# Altium schematic symbol library Schlib1.SchLib: 25 symbols
Pins are listed as number, name and electrical type; pins without a type are passive.

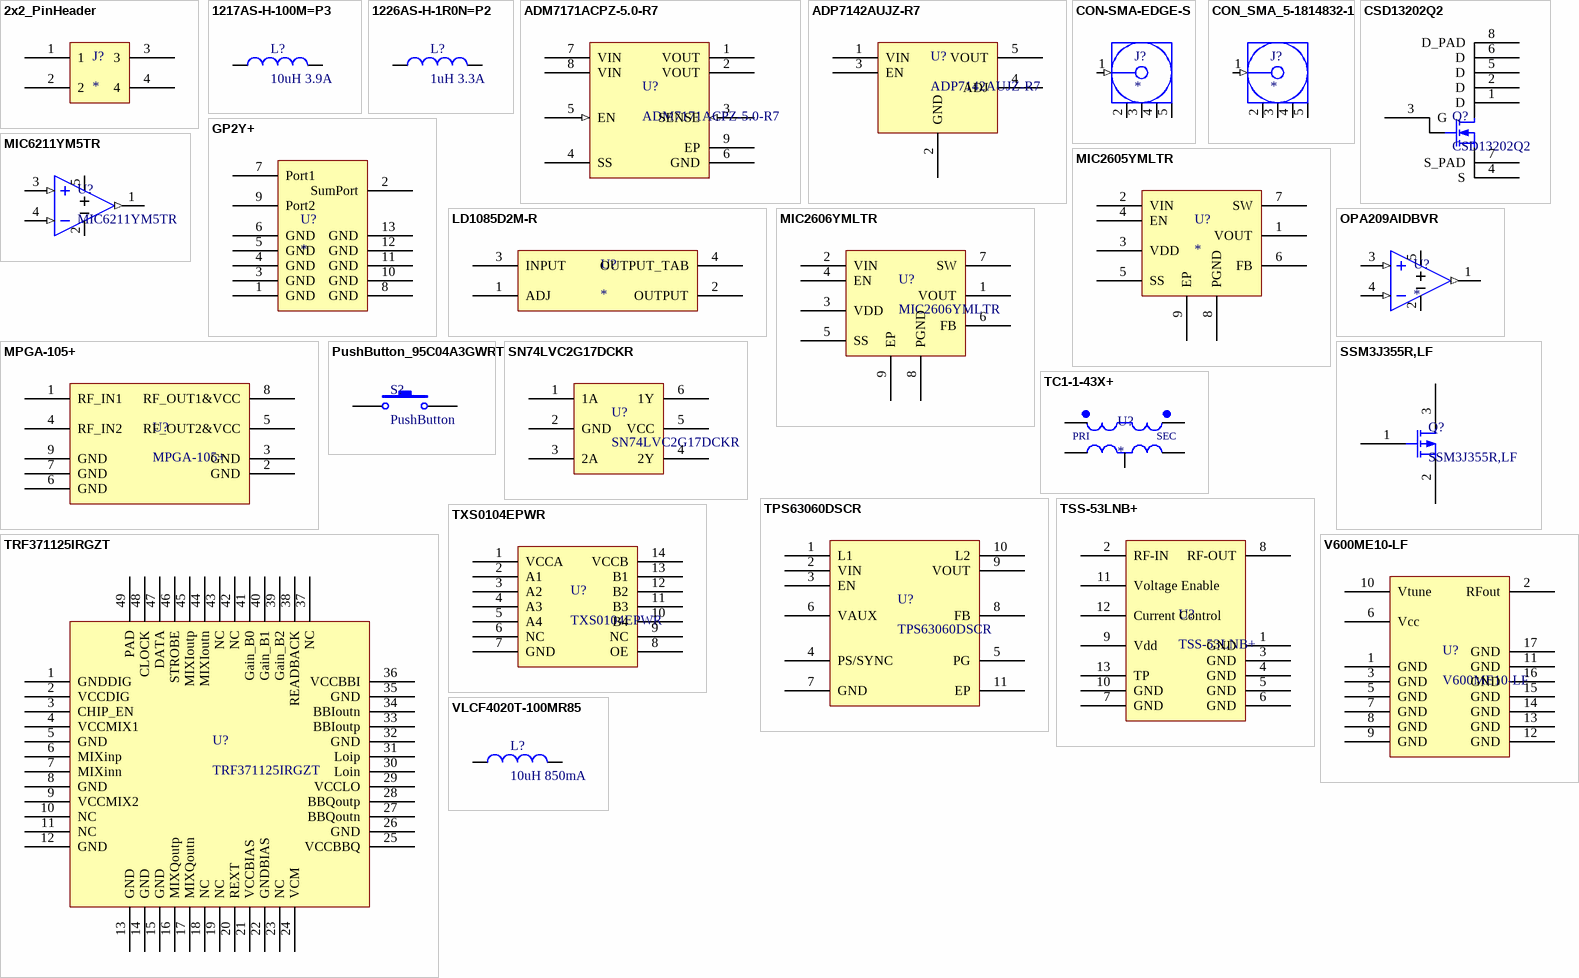
[diagram p0: symbols 2x2_PinHeader to VLCF4020T-100MR85]

## 2x2_PinHeader
designator J?
footprint 2x2_PinHeader
pins: 1, 2, 3, 4

## 1217AS-H-100M=P3
designator L?, comment 10uH 3.9A
Ind Power Shielded 10uH 20% 100KHz Ferrite 3.9A T/R; Manufacturer: Murata; Manufacturer Part Number: 1217AS-H-100M=P3; Type: Wirewound; Inductance: 10µH; Current - Saturation: 4.3A; DC Resistance (DCR): 39.6 mOhm Max; Supplier 1: Digi-Key; Stock 1: 1997; Pricing 1: 1=0.9, 10=0.837, 100=0.6054, 500=0.4637 (USD); Category: Inductors, Coils, Chokes; Family: Fixed Inductors; Series: DEM8045C; Packaging: Tape & Reel (TR); Material - Core: Ferrite; Tolerance: ±20%; Current Rating: 3.9A; Shielding: Shielded; Q @ Freq: -; Frequency - Self Resonant: -; Ratings: -; Operating Temperature: -; Frequency - Test: 100kHz; Mounting Type: Surface Mount; Package / Case: 2-SMD; Size / Dimension: 0.315" L x 0.315" W (8.00mm x 8.00mm); Height - Seated (Max): 0.177" (4.50mm); Supplier Part Number 1: 490-10783-1-ND
footprint INDP8080X45N (Precision Wire Wound Inductor, 2-Leads, Body 8,00x8,00mm, IPC Medium Density)
pins: 1, 2

## 1226AS-H-1R0N=P2
designator L?, comment 1uH 3.3A
1µH Shielded Wirewound Inductor 3.3A 32 mOhm Max Nonstandard; Manufacturer: Murata; Manufacturer Part Number: 1226AS-H-1R0N=P2; Material - Core: Ferrite; Tolerance: ±30%; Current - Saturation: 2.1A; Frequency - Test: 100kHz; Supplier 1: Digi-Key; Stock 1: 2125; Pricing 1: 1=0.71, 10=0.624, 100=0.4456, 500=0.3743, 1000=0.303 (USD); Category: Inductors, Coils, Chokes; Family: Fixed Inductors; Series: -; Packaging: Tape & Reel (TR); Part Status: Active; Type: Wirewound; Inductance: 1µH; Current Rating: 3.3A; Shielding: Shielded; DC Resistance (DCR): 32 mOhm Max; Q @ Freq: -; Frequency - Self Resonant: -; Ratings: -; Operating Temperature: -40°C ~ 85°C; Mounting Type: Surface Mount; Package / Case: Nonstandard; Size / Dimension: 0.126" L x 0.118" W (3.20mm x 3.00mm); Height - Seated (Max): 0.059" (1.50mm); ComponentLink1URL: http://www.toko.co.jp/products/pdf/inductors/dem2815c.pdf; ComponentLink1Description: http://www.toko.co.jp/products/pdf/inductors/dem2815c.pdf; Supplier Part Number 1: 490-14149-1-ND
footprint INDP3028X15N (Precision Wire Wound Inductor, 2-Leads, Body 3,00x2,80mm, IPC Medium Density)
pins: 1, 2

## ADM7171ACPZ-5.0-R7
designator U?
LDO Regulator Pos 5V 1A 8-Pin LFCSP T/R; Manufacturer: Analog Devices; Input Voltage Range: 2.3 to 6.5 V; Number of Outputs: 1; Line Regulation: 0.1 %/V; Output Type: Fixed; Maximum Input Voltage: 6.5 V; Typical Quiescent Current: 0.7 mA; Polarity: Positive; Load Regulation: 0.1 %/A; Minimum Input Voltage: 2.3 V; Screening Level: Extended Industrial; Junction to Case: 23.5 C/W; Maximum Dropout Voltage @ Current: 0.07@500mA|0.135@1A V; Accuracy: -0.5|1 %; Junction to Ambient: 36.4 C/W; Maximum Quiescent Current: 2 mA; Supplier 1: Digi-Key; Manufacturer Part Number: ADM7171ACPZ-5.0-R7; Stock 1: 574; Pricing 1: 1=3.25, 10=2.917, 100=2.3901, 500=2.0347 (USD); Output Voltage: 5 V; Mounting: Surface Mount; Function: LDO; Operating Temperature: -40 to 125 C; Maximum Output Current: 1 A; ComponentLink1URL: http://www.analog.com/static/imported-files/data_sheets/ADM7171.pdf; ComponentLink1Description: http://www.analog.com/static/imported-files/data_sheets/ADM7171.pdf; ComponentLink2URL: http://www.analog.com/media/en/technical-documentation/data-sheets/ADM7171.pdf; ComponentLink2Description: http://www.analog.com/media/en/technical-documentation/data-sheets/ADM7171.pdf; Supplier Part Number 1: ADM7171ACPZ-5.0-R7CT-ND
footprint SON50P300X80_HS-9N LFCSP_WD Analog (SON, 8-Leads, Body 3,00x3,00mm, Pitch 0,50mm, Thermal Pad 1,60x1,49mm, IPC Medium Density)
pins: 1 VOUT (power), 2 VOUT (power), 3 SENSE (in), 4 SS, 5 EN (in), 6 GND (power), 7 VIN (power), 8 VIN (power), 9 EP (power)

## ADP7142AUJZ-R7
designator U?
LDO Voltage Regulators 40V 200mA LDO adjVo; Manufacturer: Analog Devices; Output Voltage: 1.2 V to 39.8 V; Number of Outputs: 1 Output; Output Type: Adjustable; Load Regulation: 0.002 %/mA; Development Kit: ADP7142UJ-EVALZ; Dropout Voltage - Max: 420 mV; Ib - Input Bias Current: 1 uA; Input Voltage MIN: 2.7 V; Line Regulation: 0.01 %/V; Operating Supply Current: 180 uA; PSRR / Ripple Rejection - Typ: 88 dB; Voltage Regulation Accuracy: 0.8 %; Supplier 1: Digi-Key; Manufacturer Part Number: ADP7142AUJZ-R7; Stock 1: 401; Pricing 1: 1=3, 10=2.697, 100=2.2094, 500=1.8808, 1000=1.5862 (USD); Product Category: LDO Voltage Regulators; RoHS: True; Mounting Style: SMD/SMT; Package / Case: TSOT-25-5; Output Current: 200 mA; Input Voltage MAX: 40 V; Maximum Operating Temperature: + 125 C; Series: ADP7142; Brand: Analog Devices; Minimum Operating Temperature: - 40 C; Packaging: Reel; Product: LDO Regulators; Factory Pack Quantity: 3000; Type: CMOS Linear Voltage Regulator; ComponentLink1URL: http://www.mouser.com/ds/2/609/ADP7142-878904.pdf; ComponentLink1Description: http://www.mouser.com/ds/2/609/ADP7142-878904.pdf; ComponentLink2URL: http://www.analog.com/static/imported-files/data_sheets/ADP7142.pdf; ComponentLink2Description: http://www.analog.com/static/imported-files/data_sheets/ADP7142.pdf; ComponentLink3URL: http://www.analog.com/media/en/technical-documentation/data-sheets/ADP7142.pdf; ComponentLink3Description: http://www.analog.com/media/en/technical-documentation/data-sheets/ADP7142.pdf; Supplier Part Number 1: ADP7142AUJZ-R7CT-ND
footprint SOT95P280X90-5N (SOT23, 5-Leads, Body 2,40x2,80mm, Pitch 0,95mm, IPC Medium Density)
pins: 1 VIN, 2 GND, 3 EN, 4 ADJ, 5 VOUT

## CON-SMA-EDGE-S
designator J?
CONN SMA JACK STR EDGE MNT; Manufacturer: RF Solutions; Manufacturer Part Number: CON-SMA-EDGE-S; Connector Type: Jack, Female Socket; Contact Termination: Solder; Supplier 1: Digi-Key; RoHS: RoHS Compliant; Category: Connectors, Interconnects; Stock 1: 0; Pricing 1: 1=1.51 (EUR); Packaging: -; Part Status: Active; Connector Style: SMA; Shield Termination: Solder; Impedance: -; Mounting Type: Board Edge, End Launch; Mounting Feature: -; Cable Group: -; Fastening Type: Threaded; Features: -; Housing Color: -; Ingress Protection: -; Includes: -; Body Material: -; Body Finish: -; Center Contact Plating: -; Dielectric Material: -; Operating Temperature: -; Center Contact Material: -; Mating Cycles: -; Insertion Loss: -; ComponentLink1URL: https://media.digikey.com/pdf/Data%20Sheets/RF%20Solutions%20PDFs/CON-SMA-EDGE.pdf; ComponentLink1Description: https://media.digikey.com/pdf/Data%20Sheets/RF%20Solutions%20PDFs/CON-SMA-EDGE.pdf; Supplier Part Number 1: CON-SMA-EDGE-S-ND
footprint CON-SMA-EDGE-S
pins: 1 Signal (in) "Signal Pin", 2 GND (power), 3 GND (power), 4 GND (power), 5 GND (power)

## CON_SMA_5-1814832-1
designator J?
CONN SMA JACK STR 50 OHM PCB; Manufacturer: TE Connectivity AMP Connectors; Manufacturer Part Number: 5-1814832-1; Connector Type: Jack, Female Socket; Contact Termination: Solder; Impedance: 50 Ohm; Body Material: Zinc Alloy; Body Finish: Gold; Dielectric Material: Polytetrafluoroethylene (PTFE); Center Contact Material: Phosphor Bronze; Mating Cycles: 500; Supplier 1: Digi-Key; RoHS: RoHS Compliant; Category: Connectors, Interconnects; Stock 1: 18421; Pricing 1: 1=1.57, 10=1.508, 25=1.3828, 50=1.3198, 100=1.2569, 250=1.09984, 500=1.06842, 1000=0.94272 (EUR); Packaging: Bulk; Part Status: Active; Connector Style: SMA; Shield Termination: Solder; Mounting Type: Through Hole; Mounting Feature: -; Cable Group: -; Fastening Type: Threaded; Features: -; Housing Color: Gold; Ingress Protection: -; Includes: -; Center Contact Plating: Gold; Operating Temperature: -65°C ~ 165°C; Insertion Loss: -; ComponentLink1URL: http://www.te.com/commerce/DocumentDelivery/DDEController?Action=srchrtrv&DocNm=1814832&DocType=Customer+Drawing&DocLang=English; ComponentLink1Description: http://www.te.com/commerce/DocumentDelivery/DDEController?Action=srchrtrv&DocNm=1814832&DocType=Customer+Drawing&DocLang=English; Supplier Part Number 1: A97594-ND
footprint SMA_CONN_5-1814832-1 (SMA CONN 50 ohm)
pins: 1 Signal (in) "Signal Pin", 2 GND (power), 3 GND (power), 4 GND (power), 5 GND (power)

## CSD13202Q2
designator Q?
MOSFET N-CH 12V 76A 6SON; Manufacturer: Texas Instruments; FET Type: N-Channel; Current - Continuous Drain (Id) @ 25°C: 22A (Ta); Drive Voltage (Max Rds On,  Min Rds On): 2.5V, 4.5V; Rds On (Max) @ Id, Vgs: 9.3 mOhm @ 5A, 4.5V; Vgs(th) (Max) @ Id: 1.1V @ 250µA; Vgs (Max): ±8V; Power Dissipation (Max): 2.7W (Ta); Supplier 1: Digi-Key; Manufacturer Part Number: CSD13202Q2; RoHS: RoHS Compliant; Category: Discrete Semiconductor Products; Stock 1: 166239; Pricing 1: 1=0.58, 10=0.489, 100=0.3671, 500=0.26922, 1000=0.20803 (EUR); Packaging: Cut Tape (CT); Part Status: Active; Technology: MOSFET (Metal Oxide); FET Feature: -; Operating Temperature: -55°C ~ 150°C (TJ); Mounting Type: Surface Mount; Supplier Device Package: 6-WSON (2x2); Package / Case: 6-VDFN Exposed Pad; ComponentLink1URL: http://www.ti.com/lit/ds/symlink/csd13202q2.pdf; ComponentLink1Description: http://www.ti.com/lit/ds/symlink/csd13202q2.pdf; Supplier Part Number 1: 296-38911-1-ND
footprint 8-QFN
pins: 1 D, 2 D, 3 G, 4 S, 5 D, 6 D, 7 S_PAD, 8 D_PAD

## GP2Y+
designator U?
Power Splitter/Combiner; Manufacturer: Minicircuits; Manufacturer Part Number: GP2Y+; Supplier: Aicox
footprint DQ1225 (QFN, 12-Leads, Body 3,00x3,00mm, Pitch 0,51mm, Thermal Pad 1,25x1,25mm, IPC Low Density, Minicircuits)
pins: 1 GND (power), 2 SumPort, 3 GND (power), 4 GND (power), 5 GND (power), 6 GND (power), 7 Port1, 8 GND (power), 9 Port2, 10 GND (power), 11 GND (power), 12 GND (power), 13 GND (power)

## LD1085D2M-R
designator U?
IC REG LINEAR POS ADJ 3A D2PAK-3; Manufacturer: STMicroelectronics; Manufacturer Part Number: LD1085D2M-R; Output Configuration: Positive; Output Type: Adjustable; Voltage - Input (Max): 30V; Voltage - Output (Min/Fixed): 1.25V; Voltage - Output (Max): 28.5V; Voltage Dropout (Max): 1.5V @ 3A; PSRR: 72dB (120Hz); Protection Features: Over Current, Over Temperature; Supplier 1: Digi-Key; RoHS: RoHS Compliant; Category: Integrated Circuits (ICs); Stock 1: 4622; Pricing 1: 1=1.14, 10=1.022, 100=0.7969, 500=0.65834 (EUR); Packaging: Cut Tape (CT); Part Status: Active; Current - Output: 3A; Control Features: -; Operating Temperature: -40°C ~ 125°C; Mounting Type: Surface Mount; Package / Case: TO-263-4, D²Pak (3 Leads + Tab), TO-263AA; Supplier Device Package: D2PAK-3; Base Part Number: LD1085; ComponentLink1URL: http://www.st.com/content/ccc/resource/technical/document/datasheet/d3/84/d5/f6/3c/23/40/7b/CD00001883.pdf/files/CD00001883.pdf/jcr:content/translations/en.CD00001883.pdf; ComponentLink1Description: http://www.st.com/content/ccc/resource/technical/document/datasheet/d3/84/d5/f6/3c/23/40/7b/CD00001883.pdf/files/CD00001883.pdf/jcr:content/translations/en.CD00001883.pdf; Supplier Part Number 1: 497-3419-1-ND
footprint DPAK254P1542X460-4M (D2-PAK, 4-Pads, Body 7,57x8,03mm (max), IPC Low Density)
pins: 1 ADJ, 2 OUTPUT (power), 3 INPUT (power), 4 OUTPUT_TAB (power)

## MIC2605YMLTR
designator U?
Boost Switching Regulator IC Positive Adjustable 4.5V 1 Output 500mA (Switch) 8-VFDFN Exposed Pad, 8-MLF®; Manufacturer: Microchip Micrel; Manufacturer Part Number: MIC2605YMLTR; Function: Step-Up; Number of Outputs: 1; Voltage - Input (Max): 20V; Voltage - Output (Max): 40V (Switch); Frequency - Switching: 1.2MHz; Synchronous Rectifier: No; Supplier 1: Digi-Key; Stock 1: 6517; Pricing 1: 1=1.12, 25=0.9372, 100=0.8446 (USD); Category: Integrated Circuits (ICs); Family: PMIC - Voltage Regulators - DC DC Switching Regulators; Series: -; Packaging: Tape & Reel (TR); Output Configuration: Positive; Topology: Boost; Output Type: Adjustable; Voltage - Input (Min): 4.5V; Voltage - Output (Min/Fixed): 4.5V; Current - Output: 500mA (Switch); Operating Temperature: -40°C ~ 125°C (TJ); Mounting Type: Surface Mount; Package / Case: 8-VFDFN Exposed Pad, 8-MLF®; Supplier Device Package: 8-MLF® (2x2); ComponentLink1URL: https://datasheet.ciiva.com/2028/mic2605-2028432.pdf; ComponentLink1Description: https://datasheet.ciiva.com/2028/mic2605-2028432.pdf; ComponentLink2URL: https://datasheet.ciiva.com/26909/getdatasheetpartid-131450-26909717.pdf; ComponentLink2Description: https://datasheet.ciiva.com/26909/getdatasheetpartid-131450-26909717.pdf; ComponentLink3URL: https://datasheet.ciiva.com/16364/mic2605-16364795.pdf; ComponentLink3Description: https://datasheet.ciiva.com/16364/mic2605-16364795.pdf; ComponentLink4URL: https://datasheet.ciiva.com/2028/mic2605-2028430.pdf; ComponentLink4Description: https://datasheet.ciiva.com/2028/mic2605-2028430.pdf; ComponentLink5URL: https://datasheet.ciiva.com/2028/mic2605-2028431.pdf; ComponentLink5Description: https://datasheet.ciiva.com/2028/mic2605-2028431.pdf; Supplier Part Number 1: 576-3258-1-ND
footprint SON50P200X90_HS-9N (SON, 8-Leads, Body 2,00x2,00mm, Pitch 0,50mm, Thermal Pad 1,20x0,60mm, IPC Medium Density)
pins: 1 VOUT, 2 VIN, 3 VDD, 4 EN, 5 SS, 6 FB, 7 SW, 8 PGND, 9 EP

## MIC2606YMLTR
designator U?
Boost Switching Regulator IC Positive Adjustable 4.5V 1 Output 500mA (Switch) 8-VFDFN Exposed Pad, 8-MLF®; Manufacturer: Microchip Micrel; Function: Step-Up; Number of Outputs: 1; Voltage - Input (Max): 20V; Voltage - Output (Max): 40V (Switch); Frequency - Switching: 2MHz; Synchronous Rectifier: No; Supplier 1: Digi-Key; Manufacturer Part Number: MIC2606YMLTR; Stock 1: 2212; Pricing 1: 1=0.77, 25=0.64, 100=0.62 (USD); Category: Integrated Circuits (ICs); Family: PMIC - Voltage Regulators - DC DC Switching Regulators; Series: -; Packaging: Tape & Reel (TR); Output Configuration: Positive; Topology: Boost; Output Type: Adjustable; Voltage - Input (Min): 4.5V; Voltage - Output (Min/Fixed): 4.5V; Current - Output: 500mA (Switch); Operating Temperature: -40°C ~ 125°C (TJ); Mounting Type: Surface Mount; Package / Case: 8-VFDFN Exposed Pad, 8-MLF®; Supplier Device Package: 8-MLF® (2x2); ComponentLink1URL: https://datasheet.ciiva.com/4118/47017811s8962126n1374-4118815.pdf; ComponentLink1Description: https://datasheet.ciiva.com/4118/47017811s8962126n1374-4118815.pdf; ComponentLink2URL: https://datasheet.ciiva.com/16376/mic2605-16376742.pdf; ComponentLink2Description: https://datasheet.ciiva.com/16376/mic2605-16376742.pdf; ComponentLink3URL: https://datasheet.ciiva.com/2028/mic2605-2028445.pdf; ComponentLink3Description: https://datasheet.ciiva.com/2028/mic2605-2028445.pdf; ComponentLink4URL: https://datasheet.ciiva.com/2028/mic2605-2028446.pdf; ComponentLink4Description: https://datasheet.ciiva.com/2028/mic2605-2028446.pdf; ComponentLink5URL: https://datasheet.ciiva.com/2028/mic2605-2028447.pdf; ComponentLink5Description: https://datasheet.ciiva.com/2028/mic2605-2028447.pdf; Supplier Part Number 1: 1611-MIC2606YML-CT-ND
footprint SON50P200X90_HS-9N (SON, 8-Leads, Body 2,00x2,00mm, Pitch 0,50mm, Thermal Pad 1,20x0,60mm, IPC Medium Density)
pins: 1 VOUT, 2 VIN, 3 VDD, 4 EN, 5 SS, 6 FB, 7 SW, 8 PGND, 9 EP

## MIC6211YM5TR
designator U?
IC OPAMP GP 2.5MHZ SOT23-5; Manufacturer: Microchip Micrel; Input Offset Voltage-Max: 7 mV; No of Channels: 1; Slew Rate-Nom: 6 V/µs; Supply Voltage-Max: 32 V; Supplier 1: Digi-Key; Manufacturer Part Number: MIC6211YM5TR; Stock 1: 6526; Pricing 1: 1=0.32, 25=0.268, 100=0.2472 (USD); Gain Bandwidth-Nom: 2.5 MHz; ComponentLink1URL: https://datasheet.ciiva.com/1796/mic6211-1796048.pdf; ComponentLink1Description: https://datasheet.ciiva.com/1796/mic6211-1796048.pdf; ComponentLink2URL: https://datasheet.ciiva.com/5825/94475-5825392.pdf; ComponentLink2Description: https://datasheet.ciiva.com/5825/94475-5825392.pdf; ComponentLink3URL: https://datasheet.ciiva.com/1796/mic6211-1796049.pdf; ComponentLink3Description: https://datasheet.ciiva.com/1796/mic6211-1796049.pdf; ComponentLink4URL: https://datasheet.ciiva.com/1796/mic6211-1796050.pdf; ComponentLink4Description: https://datasheet.ciiva.com/1796/mic6211-1796050.pdf; ComponentLink5URL: https://datasheet.ciiva.com/13061/mic6211-13061502.pdf; ComponentLink5Description: https://datasheet.ciiva.com/13061/mic6211-13061502.pdf; Supplier Part Number 1: 576-1314-1-ND
footprint SOT95P280X90-5N2 (SOT23, 5-Leads, Body 2,90x2,80mm, Pitch 0,95mm, IPC Medium Density)
pins: 1 OUTA (out), 2 V- (power), 3 IN+ (in), 4 IN- (in), 5 V+ (power)

## MPGA-105+
designator U?
Dual Matched MMIC Ampli er; Manufacturer: Minicircuits; Manufacturer Part Number: MPGA-105+; Supplier: Aicox
footprint DL1020_recomendedValues (SON, 8-Leads, Body 6,00x4,90mm, Pitch 1,27mm, Thermal Pad 3,00x2,49mm, IPC Low Density, Minicircuits)
pins: 1 RF_IN1, 2 GND (power), 3 GND (power), 4 RF_IN2, 5 RF_OUT2&VCC, 6 GND (power), 7 GND (power), 8 RF_OUT1&VCC, 9 GND (power)

## OPA209AIDBVR
designator U?
IC OPAMP DIFF 18MHZ RRO SOT23-5; Manufacturer: Texas Instruments; Manufacturer Part Number: OPA209AIDBVR; Featured Product: WEBENCH Design Center; Amplifier Type: Differential; Number of Circuits: 1; Output Type: Rail-to-Rail; Slew Rate: 6.4 V/µs; Current - Input Bias: 1nA; Voltage - Input Offset: 35µV; Current - Supply: 2.2mA; Current - Output / Channel: 65mA; Voltage - Supply, Single/Dual (±): 4.5 V ~ 36 V, ±2.25 V ~ 18 V; Dynamic Catalog: Audio; Other Names: 296-28152-2; Supplier 1: Digi-Key; Stock 1: 3753; Pricing 1: 1=2.94, 10=2.642, 100=2.1237, 500=1.7448, 1000=1.4457 (USD); Standard Package: 3,000; Category: Integrated Circuits (ICs); Family: Linear - Amplifiers - Instrumentation, OP Amps, Buffer Amps; Series: -; Gain Bandwidth Product: 18MHz; -3db Bandwidth: -; Operating Temperature: -40°C ~ 125°C; Mounting Type: Surface Mount; Package / Case: SC-74A, SOT-753; Supplier Device Package: SOT-23-5; Packaging: Tape & Reel (TR); ComponentLink1URL: https://datasheet.ciiva.com/1799/opa209-1799349.pdf; ComponentLink1Description: https://datasheet.ciiva.com/1799/opa209-1799349.pdf; ComponentLink2URL: https://datasheet.ciiva.com/1799/opa209-1799350.pdf; ComponentLink2Description: https://datasheet.ciiva.com/1799/opa209-1799350.pdf; ComponentLink3URL: https://datasheet.ciiva.com/1799/opa209-1799351.pdf; ComponentLink3Description: https://datasheet.ciiva.com/1799/opa209-1799351.pdf; Supplier Part Number 1: 296-28152-1-ND
footprint SOT95P280X90-5N2 (SOT23, 5-Leads, Body 2,90x2,80mm, Pitch 0,95mm, IPC Medium Density)
pins: 1 OUTA (out), 2 V- (power), 3 IN+ (in), 4 IN- (in), 5 V+ (power)

## PushButton_95C04A3GWRT
designator S?, comment PushButton
SWITCH TACTILE SPST-NO 0.05A 12V; Manufacturer: Grayhill Inc.; Manufacturer Part Number: 95C04A3GWRT; Switch Function: Off-Mom; Contact Rating @ Voltage: 0.05A @ 12VDC; Actuator Type: Rectangular Button; Actuator Height off PCB, Vertical: 4.30mm; Actuator Orientation: Top Actuated; Outline: 6.00mm x 3.50mm; Illumination: Non-Illuminated; Operating Force: 160gf; Actuator Material: Polyamide (PA), Nylon; Switch Travel: 0.25mm; Mechanical Life: 50,000 Cycles; Supplier 1: Digi-Key; RoHS: RoHS Compliant; Category: Switches; Stock 1: 3272; Pricing 1: 1=0.38, 10=0.363, 25=0.3556, 50=0.3424, 100=0.2954, 250=0.26852, 500=0.2551 (EUR); Packaging: Cut Tape (CT); Part Status: Active; Circuit: SPST-NO; Mounting Type: Surface Mount; Actuator Length, Right Angle: -; Termination Style: Gull Wing; Illumination Type, Color: -; Illumination Voltage (Nominal): -; Ingress Protection: -; Features: Tactile Feedback; Operating Temperature: -25°C ~ 70°C; ComponentLink1URL: http://www.grayhill.com/assets/1/7/Tact_95C04.pdf; ComponentLink1Description: http://www.grayhill.com/assets/1/7/Tact_95C04.pdf; Supplier Part Number 1: GH7643CT-ND
footprint GH7643CT-ND
pins: 1, 2

## SN74LVC2G17DCKR
designator U?
IC BUF NON-INVERT 5.5V SC70-6; Manufacturer: Texas Instruments; Logic Type: Buffer, Non-Inverting; Number of Bits per Element: 1; Input Type: Schmitt Trigger; Output Type: Push-Pull; Current - Output High, Low: 32mA, 32mA; Voltage - Supply: 1.65 V ~ 5.5 V; Supplier 1: Digi-Key; Manufacturer Part Number: SN74LVC2G17DCKR; RoHS: RoHS Compliant; Category: Integrated Circuits (ICs); Stock 1: 76967; Pricing 1: 1=0.47, 10=0.399, 100=0.298, 500=0.2341, 1000=0.18089 (EUR); Packaging: Cut Tape (CT); Part Status: Active; Operating Temperature: -40°C ~ 125°C (TA); Mounting Type: Surface Mount; Package / Case: 6-TSSOP, SC-88, SOT-363; Supplier Device Package: SC-70-6; Base Part Number: 74LVC2G17; ComponentLink1URL: http://www.ti.com/lit/ds/symlink/sn74lvc2g17.pdf; ComponentLink1Description: http://www.ti.com/lit/ds/symlink/sn74lvc2g17.pdf; Supplier Part Number 1: 296-13013-1-ND
footprint DCK (R-PDSO-G6) (TSOP, 6-Leads, Body 2,00x1,25mm, Pitch 0,65mm, IPC Low Density, TexasInstrument, TI)
pins: 1 1A, 2 GND, 3 2A (power), 4 2Y (power), 5 VCC, 6 1Y

## SSM3J355R,LF
designator Q?
SMALL LOW ON RESISTANCE MOSFET; Manufacturer: Toshiba Semiconductor and Storage; FET Type: P-Channel; Current - Continuous Drain (Id) @ 25°C: 6A (Ta); Drive Voltage (Max Rds On,  Min Rds On): 1.8V, 4.5V; Rds On (Max) @ Id, Vgs: 30.1 mOhm @ 4A, 4.5V; Vgs(th) (Max) @ Id: 1V @ 1mA; Vgs (Max): ±10V; Power Dissipation (Max): 1W (Ta); Supplier 1: Digi-Key; Manufacturer Part Number: SSM3J355R,LF; RoHS: RoHS Compliant; Category: Discrete Semiconductor Products; Stock 1: 3232; Pricing 1: 1=0.43, 10=0.298, 100=0.1958, 500=0.11568, 1000=0.089 (EUR); Packaging: Cut Tape (CT); Part Status: Active; Technology: MOSFET (Metal Oxide); FET Feature: -; Operating Temperature: 150°C (TJ); Mounting Type: Surface Mount; Supplier Device Package: SOT-23F; Package / Case: SOT-23-3 Flat Leads; ComponentLink1URL: https://toshiba.semicon-storage.com/info/docget.jsp?did=55743&prodName=SSM3J355R; ComponentLink1Description: https://toshiba.semicon-storage.com/info/docget.jsp?did=55743&prodName=SSM3J355R; Supplier Part Number 1: SSM3J355RLFCT-ND
footprint SOT95P240X80-3M (SOT23, 3-Leads, Body 2,90x2,40mm, Pitch 0,95mm, IPC Low Density)
pins: 1 G, 2 S, 3 D

## TC1-1-43X+
designator U?
SMD RF Transformer; Manufacturer: Minicircuits; Manufacturer Part Number: TC1-1-43X+; Supplier: Aicox
footprint AT1521 (SOTFL, 5-Leads, Body 3,81x3,81mm, Pitch 1,27mm, IPC Low Density, Minicircuits)
pins: 1, 2 NC, 3, 4, 6
text: PRI; SEC

## TPS63060DSCR
designator U?
IC REG BUCK BOOST ADJ 2A 10WSON; Manufacturer: Texas Instruments; Output Type: Adjustable; Number of Outputs: 1; Voltage - Output: 2.5 V ~ 8 V; Voltage - Input: 2.5 V ~ 12 V; PWM Type: Current Mode; Frequency - Switching: 2.4MHz; Current - Output: 1A; Synchronous Rectifier: Yes; Dynamic Catalog: Buck-Boost IC; Other Names: 296-30204-6; Supplier 1: Digi-Key; Manufacturer Part Number: TPS63060DSCR; Stock 1: 94868; Pricing 1: 1=2.41, 10=2.162, 100=1.7376, 500=1.4276, 1000=1.1829 (USD); Standard Package: 1; Category: Integrated Circuits (ICs); Family: PMIC - Voltage Regulators - DC DC Switching Regulators; Series: -; Type: Step-Down (Buck), Step-Up (Boost); Operating Temperature: -40°C ~ 85°C; Mounting Type: Surface Mount; Package / Case: 10-WFDFN Exposed Pad; Packaging: Digi-Reel®; Supplier Device Package: 10-SON Exposed Pad (3x3); ComponentLink1URL: https://datasheet.ciiva.com/4880/slvsa92a-120813-4880993.pdf; ComponentLink1Description: https://datasheet.ciiva.com/4880/slvsa92a-120813-4880993.pdf; ComponentLink2URL: https://datasheet.ciiva.com/7142/1537406-7142908.pdf; ComponentLink2Description: https://datasheet.ciiva.com/7142/1537406-7142908.pdf; ComponentLink3URL: https://datasheet.ciiva.com/2025/tps63060-2025734.pdf; ComponentLink3Description: https://datasheet.ciiva.com/2025/tps63060-2025734.pdf; ComponentLink4URL: https://datasheet.ciiva.com/2025/tps63060-2025735.pdf; ComponentLink4Description: https://datasheet.ciiva.com/2025/tps63060-2025735.pdf; ComponentLink5URL: https://datasheet.ciiva.com/7994/1882359-7994055.pdf; ComponentLink5Description: https://datasheet.ciiva.com/7994/1882359-7994055.pdf; ComponentLink6URL: https://datasheet.ciiva.com/2025/tps63060-2025736.pdf; ComponentLink6Description: https://datasheet.ciiva.com/2025/tps63060-2025736.pdf; ComponentLink7URL: https://datasheet.ciiva.com/14377/tps63060-14377242.pdf; ComponentLink7Description: https://datasheet.ciiva.com/14377/tps63060-14377242.pdf; ComponentLink8URL: https://datasheet.ciiva.com/26181/tps63060-26181916.pdf; ComponentLink8Description: https://datasheet.ciiva.com/26181/tps63060-26181916.pdf; Supplier Part Number 1: 296-30204-1-ND
footprint SON50P300X80_HS-11N (SON, 10-Leads, Body 3,00x3,00mm, Pitch 0,50mm, Thermal Pad 2,15x1,44mm, IPC Medium Density)
pins: 1 L1, 2 VIN, 3 EN, 4 PS/SYNC, 5 PG, 6 VAUX, 7 GND, 8 FB, 9 VOUT, 10 L2, 11 EP

## TRF371125IRGZT
designator U?
IC IQ DEMODULATOR W/PGA 48VQFN; Manufacturer: Texas Instruments; Function: Demodulator, Amplifier; LO Frequency: 700MHz ~ 4GHz; P1dB: 3dBm; Gain: 40dB; Noise Figure: 13.5dB; Voltage - Supply: 4.5 V ~ 5.5 V; Supplier 1: Digi-Key; Manufacturer Part Number: TRF371125IRGZT; RoHS: RoHS Compliant; Category: RF/IF and RFID; Stock 1: 1365; Pricing 1: 1=22.67, 10=20.922, 25=19.1784, 100=17.7254 (EUR); Packaging: Cut Tape (CT); Part Status: Active; RF Frequency: 700MHz ~ 4GHz; Package / Case: 48-VFQFN Exposed Pad; Supplier Device Package: 48-VQFN (7x7); ComponentLink1URL: http://www.ti.com/lit/ds/symlink/trf371125.pdf; ComponentLink1Description: http://www.ti.com/lit/ds/symlink/trf371125.pdf; Supplier Part Number 1: 296-25654-1-ND; Supplier: Aicox
footprint QFN50P700X700X100_HS-49M (QFN, 48-Leads, Body 7,00x7,00mm, Pitch 0,50mm, Thermal Pad 5,60x5,60mm, IPC Low Density)
pins: 1 GNDDIG (power), 2 VCCDIG (power), 3 CHIP_EN, 4 VCCMIX1 (power), 5 GND (power), 6 MIXinp, 7 MIXinn, 8 GND (power), 9 VCCMIX2 (power), 10 NC, 11 NC, 12 GND (power), 13 GND (power), 14 GND (power), 15 GND (power), 16 MIXQoutp, 17 MIXQoutn, 18 NC, 19 NC, 20 REXT, 21 VCCBIAS (power), 22 GNDBIAS (power), 23 NC, 24 VCM, 25 VCCBBQ (power), 26 GND (power), 27 BBQoutn, 28 BBQoutp, 29 VCCLO (power), 30 Loin, 31 Loip, 32 GND (power), 33 BBIoutp, 34 BBIoutn, 35 GND (power), 36 VCCBBI (power), 37 NC, 38 READBACK, 39 Gain_B2, 40 Gain_B1, 41 Gain_B0, 42 NC, 43 NC, 44 MIXIoutn, 45 MIXIoutp, 46 STROBE, 47 DATA, 48 CLOCK, 49 PAD (power)

## TSS-53LNB+
designator U?
Low Noise Bypass Amplier; Manufacturer: Minicircuits; Manufacturer Part Number: TSS-53LNB+; Supplier: Aicox
footprint DQ1225 (QFN, 12-Leads, Body 3,00x3,00mm, Pitch 0,51mm, Thermal Pad 1,25x1,25mm, IPC Low Density, Minicircuits)
pins: 1 GND (power), 2 RF-IN, 3 GND (power), 4 GND (power), 5 GND (power), 6 GND (power), 7 GND (power), 8 RF-OUT, 9 Vdd (power), 10 GND (power), 11 Voltage Enable, 12 Current Control, 13 TP (power)

## TXS0104EPWR
designator U?
IC TRNSLTR BIDIRECTIONAL 14TSSOP; Manufacturer: Texas Instruments; Translator Type: Voltage Level; Channels per Circuit: 4; Output Type: Open Drain, Push-Pull; Data Rate: 24Mbps; Supplier 1: Digi-Key; Manufacturer Part Number: TXS0104EPWR; RoHS: RoHS Compliant; Category: Integrated Circuits (ICs); Stock 1: 24531; Pricing 1: 1=1.15, 10=1.027, 100=0.8009, 500=0.66168, 1000=0.52237 (EUR); Packaging: Cut Tape (CT); Part Status: Active; Channel Type: Bidirectional; Input Signal: -; Output Signal: -; Operating Temperature: -40°C ~ 85°C (TA); Features: Auto-Direction Sensing; Mounting Type: Surface Mount; Package / Case: 14-TSSOP (0.173", 4.40mm Width); Supplier Device Package: 14-TSSOP; Base Part Number: TXS0104; ComponentLink1URL: http://www.ti.com/lit/ds/symlink/txs0104e.pdf; ComponentLink1Description: http://www.ti.com/lit/ds/symlink/txs0104e.pdf; Supplier Part Number 1: 296-20697-1-ND
footprint 14-SOIC
footprint 14-TSSOP
pins: 1 VCCA, 2 A1, 3 A2, 4 A3, 5 A4, 6 NC, 7 GND, 8 OE, 9 NC, 10 B4, 11 B3, 12 B2, 13 B1, 14 VCCB

## V600ME10-LF
designator U?
Voltage-Controlled Oscillator SMD; Manufacturer: ZCOMM; Manufacturer Part Number: V600ME10-LF; Supplier: Monolitic
footprint CK605 (QFN, 16-Leads, Body 12,70x12,70mm, Pitch 2,54mm, IPC Low Density, Minicircuits)
pins: 1 GND (power), 2 RFout, 3 GND (power), 5 GND (power), 6 Vcc (power), 7 GND (power), 8 GND (power), 9 GND (power), 10 Vtune, 11 GND (power), 12 GND (power), 13 GND (power), 14 GND (power), 15 GND (power), 16 GND (power), 17 GND (power)

## VLCF4020T-100MR85
designator L?, comment 10uH 850mA
FIXED IND 10UH 850MA 185 MOHM; Manufacturer: TDK; Manufacturer Part Number: VLCF4020T-100MR85; Product Training Modules: SMD Inductors; Catalog Drawings: VLCF40(18-2,20,28-2) SeriesTop VLCF40(18-2,20,28-2) SeriesFootprint VLCF4020 Series Side; EDA / CAD Models: Download from Accelerated Designs; Type: Wirewound; Material - Core: Ferrite; Inductance: 10µH; Tolerance: ±20%; Shielding: Shielded; DC Resistance (DCR): 185 mOhm Max; Frequency - Test: 100kHz; Online Catalog: VLCF Series; Other Names: 445-3186-2 / VLCF4020T100MR85; Supplier 1: Digi-Key; Stock 1: 9968; Pricing 1: 1=0.78, 10=0.684, 100=0.4888, 500=0.4106 (USD); Standard Package: 1,000; Category: Inductors, Coils, Chokes; Family: Fixed Inductors; Series: VLCF; Packaging: Tape & Reel (TR); Current Rating: 850mA; Current - Saturation: 850mA; Operating Temperature: -40°C ~ 105°C; Mounting Type: Surface Mount; Package / Case: Nonstandard; Size / Dimension: 0.157" L x 0.157" W (4.00mm x 4.00mm); Height - Seated (Max): 0.079" (2.00mm); ComponentLink1URL: https://datasheet.ciiva.com/22725/321084-22725936.pdf; ComponentLink1Description: https://datasheet.ciiva.com/22725/321084-22725936.pdf; ComponentLink2URL: https://datasheet.ciiva.com/15160/getdatasheetpartid-50492-15160149.pdf; ComponentLink2Description: https://datasheet.ciiva.com/15160/getdatasheetpartid-50492-15160149.pdf; ComponentLink3URL: https://datasheet.ciiva.com/11800/0900766b807a173d-11800455.pdf; ComponentLink3Description: https://datasheet.ciiva.com/11800/0900766b807a173d-11800455.pdf; Supplier Part Number 1: 445-3186-1-ND
footprint INDP4040X20N (Precision Wire Wound Inductor, 2-Leads, Body 4,00x4,00mm, IPC Medium Density)
pins: 1, 2